# Altium footprint library PCB - LEADLESS - QFN - ANALOG DEVICES HMC637ALP5E.PCBLIB: 1 footprints
Each footprint in its own frame and in the unit in brackets; x right, y up, seen from the top. Pads: shape width x height; smd on the part's side, far side on the other; paste and mask are expansions set on the pad; w line width, h text height; cw(c..) or ccw(c..) is an arc to the next point about the centre after c.
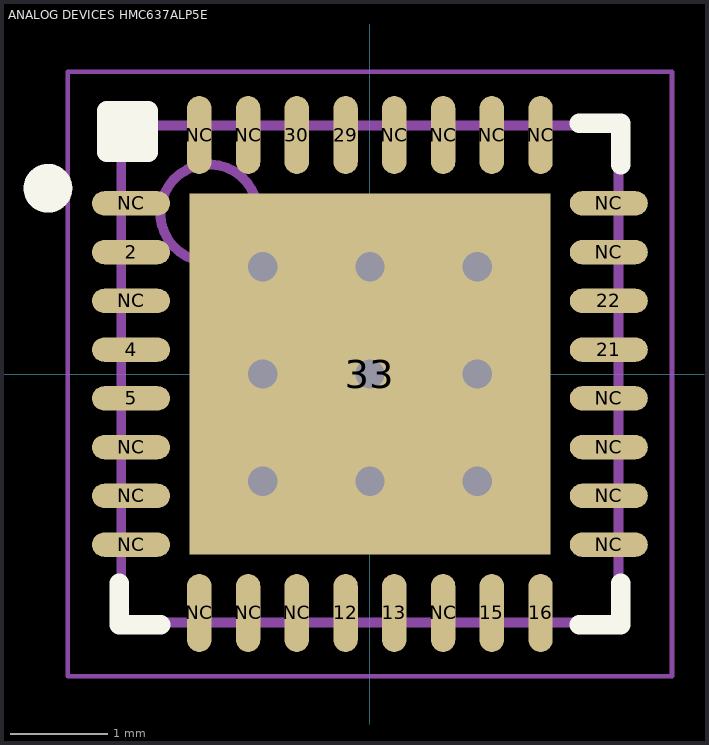
[diagram p0: the footprint, top view; thin cyan lines are the x and y axes]

## ANALOG DEVICES HMC637ALP5E [mm] "QFN, 32-Leads, Body 5.00x5.00mm, Pitch 0.50mm, Thermal Pad 3.70x3.70mm, IPC Medium Density"
height 0.9
pads (33):
  oval 0.8x0.25 smd: 2(-2.45,1.25) 4(-2.45,0.25) 5(-2.45,-0.25) 21(2.45,0.25) 22(2.45,0.75) NC(-2.45,-1.75) NC(-2.45,-1.25) NC(-2.45,-0.75) NC(-2.45,0.75) NC(-2.45,1.75) NC(2.45,-1.75) NC(2.45,-1.25) NC(2.45,-0.75) NC(2.45,-0.25) NC(2.45,1.25) NC(2.45,1.75)
  oval 0.25x0.8 smd: 12(-0.25,-2.45) 13(0.25,-2.45) 15(1.25,-2.45) 16(1.75,-2.45) 29(-0.25,2.45) 30(-0.75,2.45) NC(-1.75,-2.45) NC(-1.75,2.45) NC(-1.25,-2.45) NC(-1.25,2.45) NC(-0.75,-2.45) NC(0.25,2.45) NC(0.75,-2.45) NC(0.75,2.45) NC(1.25,2.45) NC(1.75,2.45)
  rect 3.7x3.7 smd paste-2539.97 mask+0.102: 33(0,0)
via -1.1,1.1 diameter 0.6 hole 0.3
via 0,1.1 diameter 0.6 hole 0.3
via 1.1,1.1 diameter 0.6 hole 0.3
via -1.1,0 diameter 0.6 hole 0.3
via 0,0 diameter 0.6 hole 0.3
via 1.1,0 diameter 0.6 hole 0.3
via -1.1,-1.1 diameter 0.6 hole 0.3
via 0,-1.1 diameter 0.6 hole 0.3
via 1.1,-1.1 diameter 0.6 hole 0.3
Top Overlay:
  circle w0.25: c-3.302,1.905 r0.125
  rectangle: -2.7,2.275 -2.275,2.7
  lines w0.2: -2.573,-2.148 -2.573,-2.573 -2.148,-2.573 ; 2.148,-2.573 2.573,-2.573 2.573,-2.148 ; 2.148,2.573 2.573,2.573 2.573,2.148 ; -2.7,2.275 -2.275,2.275 -2.275,2.7 -2.7,2.7 -2.7,2.275
Top Paste:
  drawing of 8 lines, arcs and shapes, not listed
Top Solder:
  drawing of 8 lines, arcs and shapes, not listed
Mechanical 13:
  circle w0.1: c-1.65,1.65 r0.5
  lines w0.1: -2.55,-2.55 -2.55,2.55 2.55,2.55 2.55,-2.55 -2.55,-2.55
Mechanical 15:
  lines w0.05: -3.1,-3.1 -3.1,3.1 3.1,3.1 3.1,-3.1 -3.1,-3.1
  lines w0.1: -0.5,0 0.5,0 ; 0,-0.5 0,0.5
3D body "ANALOG DEVICES HMC637ALP5E.step": height 0.9, standoff 0, extent -2.57,-2.57 2.57,2.57